# Altium schematic symbol library SCH - ARM CORTEX - STM STM8S105S6Tx.SchLib: 1 symbol
Pins are listed as number, name and electrical type; pins without a type are passive.

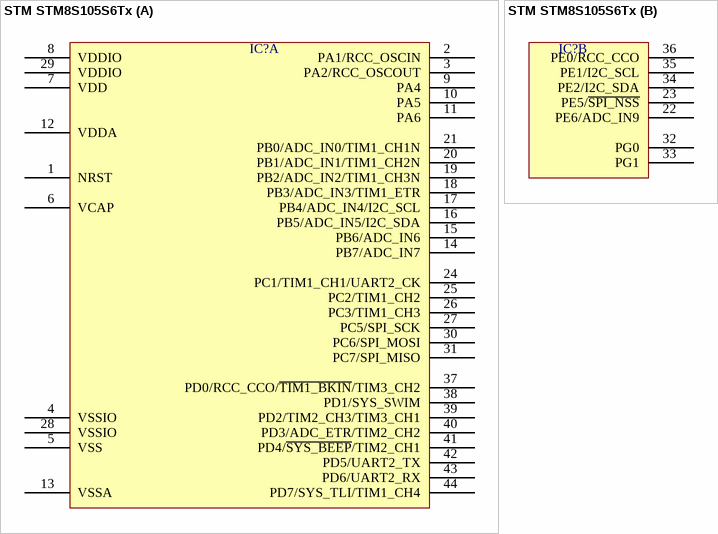
[diagram p0: symbol STM STM8S105S6Tx]

## STM STM8S105S6Tx
designator IC?  (value not drawn)
part A pins: 1 NRST, 2 PA1/RCC_OSCIN, 3 PA2/RCC_OSCOUT, 4 VSSIO, 5 VSS, 6 VCAP, 7 VDD, 8 VDDIO, 9 PA4, 10 PA5, 11 PA6, 12 VDDA, 13 VSSA, 14 PB7/ADC_IN7, 15 PB6/ADC_IN6, 16 PB5/ADC_IN5/I2C_SDA, 17 PB4/ADC_IN4/I2C_SCL, 18 PB3/ADC_IN3/TIM1_ETR, 19 PB2/ADC_IN2/TIM1_CH3N, 20 PB1/ADC_IN1/TIM1_CH2N, 21 PB0/ADC_IN0/TIM1_CH1N, 24 PC1/TIM1_CH1/UART2_CK, 25 PC2/TIM1_CH2, 26 PC3/TIM1_CH3, 27 PC5/SPI_SCK, 28 VSSIO, 29 VDDIO, 30 PC6/SPI_MOSI, 31 PC7/SPI_MISO, 37 PD0/RCC_CCO/~{TIM1_BKIN}/TIM3_CH2, 38 PD1/SYS_SWIM, 39 PD2/TIM2_CH3/TIM3_CH1, 40 PD3/ADC_ETR/TIM2_CH2, 41 PD4/~{SYS_BEEP}/TIM2_CH1, 42 PD5/UART2_TX, 43 PD6/UART2_RX, 44 PD7/SYS_TLI/TIM1_CH4
part B pins: 22 PE6/ADC_IN9, 23 PE5/~{SPI_NSS}, 32 PG0, 33 PG1, 34 PE2/I2C_SDA, 35 PE1/I2C_SCL, 36 PE0/RCC_CCO